# Altium footprint library myLib.PcbLib: 111 footprints (part 3 of 7)
Each footprint in its own frame and in the unit in brackets; x right, y up, seen from the top. Pads: shape width x height; smd on the part's side, far side on the other; paste and mask are expansions set on the pad; w line width, h text height; cw(c..) or ccw(c..) is an arc to the next point about the centre after c.
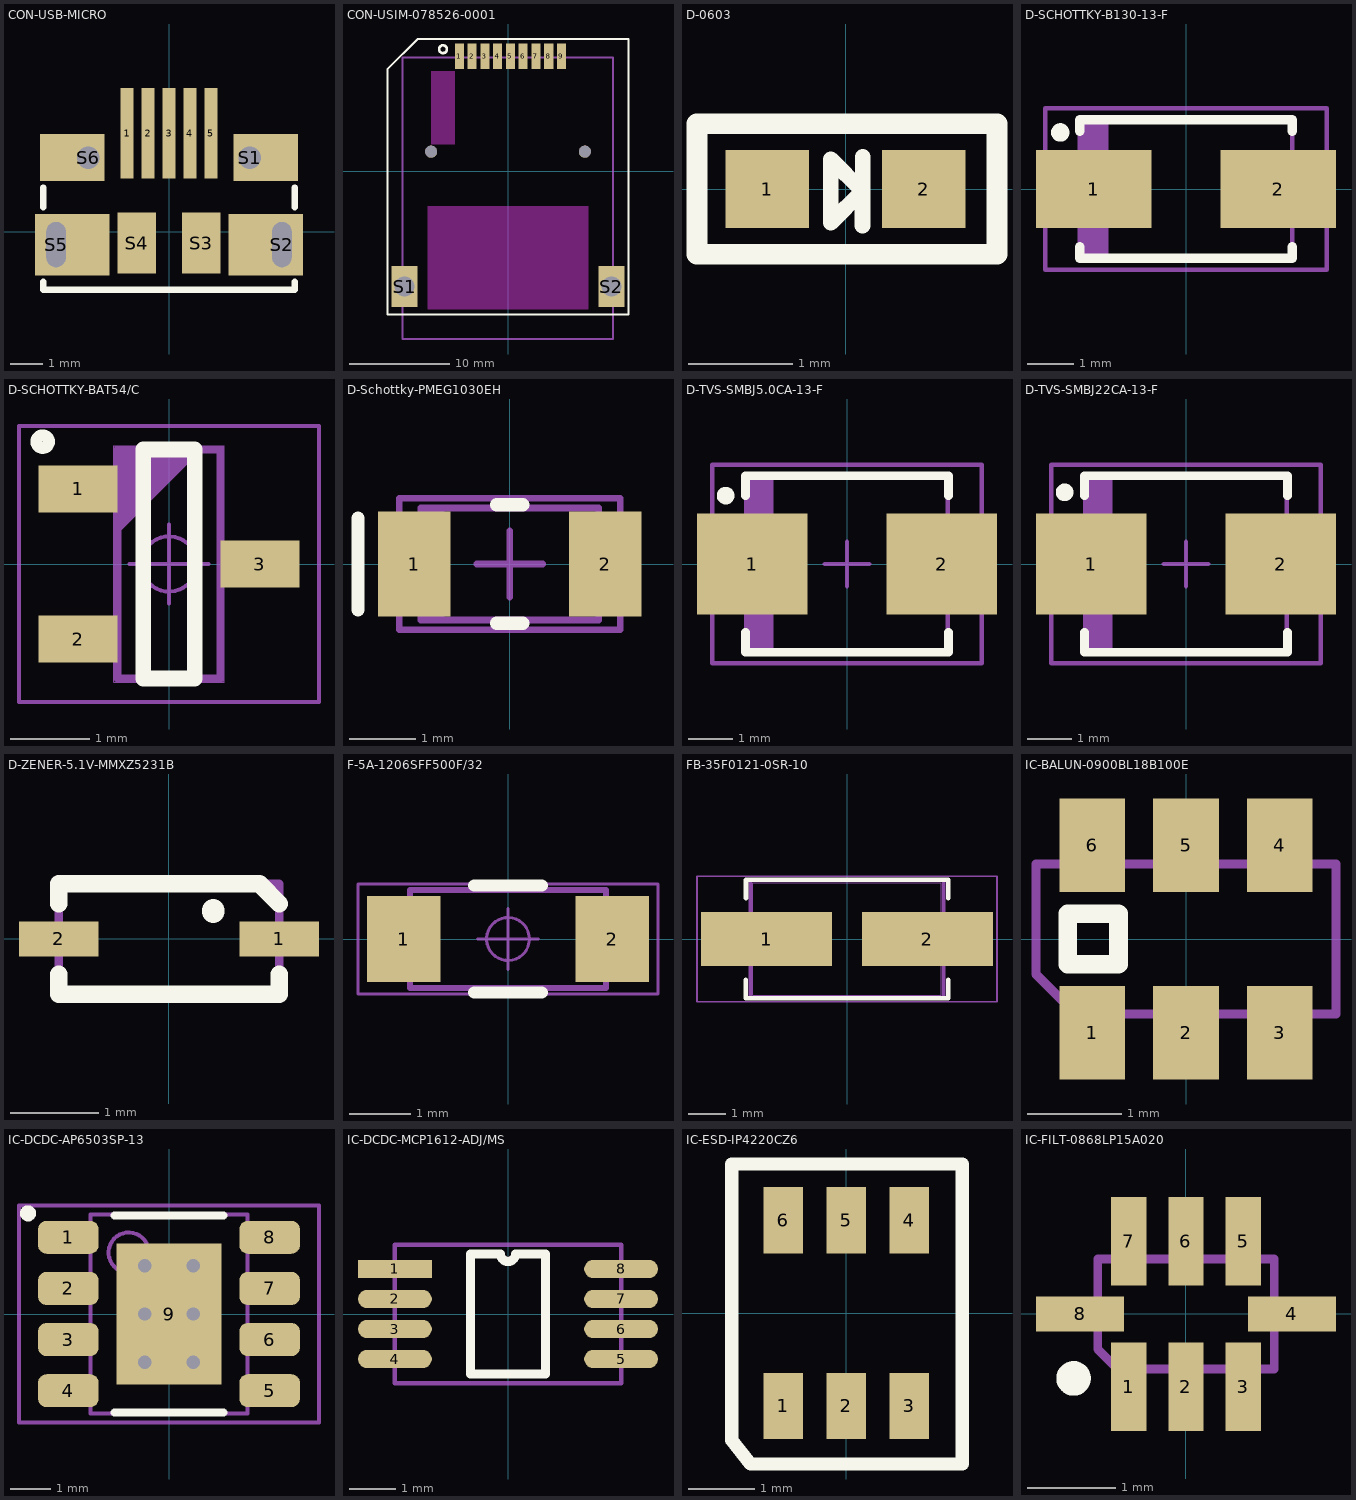
[diagram p2: the footprints below, top view; thin cyan lines are the x and y axes]

## CON-USB-MICRO [mm] "Micro USB Connector"
pads (11):
  rect 0.4x2.8 smd: 1(-1.3,3.05) 2(-0.65,3.05) 3(0,3.05) 4(0.65,3.05) 5(1.3,3.05)
  rect 2x1.45 hole 0.7 copper offset 0.5,0: S1(2.5,2.3)
  rect 2.3x1.9 hole 0.6 slot 1.4 at 90 deg copper offset -0.5,0: S2(3.5,-0.4)
  rect 1.2x1.9 smd: S3(1,-0.35) S4(-1,-0.35)
  rect 2.3x1.9 hole 0.6 slot 1.4 at 90 deg copper offset 0.5,0: S5(-3.5,-0.4)
  rect 2x1.45 hole 0.7 copper offset -0.5,0: S6(-2.5,2.3)
Top Overlay:
  lines w0.2: -3.9,-1.549 -3.9,-1.8 3.9,-1.8 3.9,-1.549 ; -3.9,0.762 -3.9,1.372 ; 3.9,0.762 3.9,1.372

## CON-USIM-078526-0001 [mm] "SIM Card Holder, Molex, 078526-0001"
pads (13):
  rect 0.9x2.5 smd: 1(-4.835,11.465) 2(-3.565,11.465) 3(-2.295,11.465) 4(-1.025,11.465) 5(0.245,11.465) 6(1.515,11.465) 7(2.785,11.465) 8(4.055,11.465) 9(5.325,11.465)
  rect 2.6x4.1 hole 2: S1(-10.3,-11.465) S2(10.3,-11.465)
  round 1.2 hole 1.2 unplated: ""(-7.65,1.965) ""(7.65,1.965)
Top Layer keep-out:
  region: -7.65,2.688 -5.298,2.688 -5.298,9.971 -7.65,9.971
  region: -8,-13.7 8,-13.7 8,-3.485 -8,-3.485
Top Overlay:
  circle w0.254: c-6.468,12.166 r0.39
  lines w0.2: -12.005,-14.26 12.005,-14.26 12.005,13.18 -8.999,13.18 -12.005,10.174 -12.005,-14.26
Drawing:
  lines w0.2: -10.483,11.345 -10.483,-16.681 10.463,-16.681 10.463,11.345 -10.458,11.345
3D body "785260001.stp": height 1.54, standoff -0.51, extent -10.489,-16.706 10.511,11.344

## D-0603 [mm] "Diode, Generic, 0603"
pads (2):
  rect 0.8x0.75 smd: 1(-0.75,0) 2(0.75,0)
Top Overlay:
  lines w0.15: 0.161,-0.35 0.162,-0.019 ; 0.162,0.309 0.162,-0.019 ; 0.162,-0.019 -0.143,0.286 -0.143,-0.324 0.162,-0.019
  lines w0.2: -1.425,-0.625 -1.425,0.625 1.45,0.625 1.45,-0.625 -1.425,-0.625

## D-SCHOTTKY-B130-13-F [mm] "Schottky Diode (B130-13-F)"
height 2.3
pads (2):
  rect 2.5x1.7 smd: 1(-2,0) 2(2,0)
Top Overlay:
  circle w0.2: c-2.725,1.225 r0.1
  lines w0.2: -2.3,-1.25 -2.3,-1.5 2.3,-1.5 2.3,-1.25 ; -2.3,1.25 -2.3,1.5 2.3,1.5 2.3,1.25
Drawing:
  rectangle: -2.3,-1.46 -1.681,1.46
  lines w0.1: -2.3,-1.46 -2.3,1.46 2.3,1.46 2.3,-1.46 -2.3,-1.46
Mechanical:
  lines w0.1: -3.05,-1.75 -3.05,1.75 3.05,1.75 3.05,-1.75 -3.05,-1.75
3D body: height 2.3, standoff 0, extent -2.3,-1.46 2.3,1.46

## D-SCHOTTKY-BAT54/C [mm] "Schottky Diode (BAT54/C)"
height 1.12
pads (3):
  rect 1x0.6 smd: 1(-1.15,0.95) 2(-1.15,-0.95) 3(1.15,0)
Top Overlay:
  circle w0.15: c-1.6,1.55 r0.08
  lines w0.2: -0.325,-1.45 -0.325,1.45 0.325,1.45 0.325,-1.45 -0.325,-1.45
Drawing:
  circle w0.05: c0,0 r0.35
  lines w0.05: -0.5,0 0.5,0 ; 0,-0.5 0,0.5 ; -1.9,-1.75 -1.9,1.75 1.9,1.75 1.9,-1.75 -1.9,-1.75
3D:
  lines w0.001: -0.7,-1.5 -0.7,1.5 0.7,1.5 0.7,-1.5 -0.7,-1.5
Mechanical:
  lines w0.1: -0.65,0.45 0.35,1.45 ; -0.65,0.55 0.25,1.45 ; -0.65,0.65 0.15,1.45 ; -0.65,0.75 0.05,1.45 ; -0.65,0.85 -0.05,1.45 ; -0.65,0.95 -0.15,1.45 ; -0.65,1.05 -0.25,1.45 ; -0.65,1.15 -0.35,1.45 ; -0.65,1.25 -0.45,1.45 ; -0.65,1.35 -0.55,1.45 ; -0.65,-1.45 -0.65,1.45 0.65,1.45 0.65,-1.45 -0.65,-1.45
3D body: height 1.12, standoff 0, extent -0.7,-1.5 0.7,1.5

## D-Schottky-PMEG1030EH [mm] "Diode, SMD (PMEG1030EH)"
height 1.2
pads (2):
  rect 1.1x1.6 smd: 1(-1.45,0) 2(1.45,0)
Top Overlay:
  lines w0.2: -2.3,-0.7 -2.3,0.7 ; -0.2,-0.9 0.2,-0.9 ; -0.2,0.9 0.2,0.9
3D:
  rectangle: -1.35,-0.85 -0.987,0.85
  lines w0.1: -1.35,-0.85 1.35,-0.85 1.35,0.85 -1.35,0.85 -1.35,-0.85
Mechanical:
  lines w0.1: -0.5,0 0.5,0 ; 0,-0.5 0,0.5 ; -1.675,-1 1.675,-1 1.675,1 -1.675,1 -1.675,-1
3D body: height 1.2, standoff 0, extent -1.35,-0.85 1.35,0.85

## D-TVS-SMBJ5.0CA-13-F [mm] "TVS Diode (SMBJ22CA-13-F)"
height 2.62
pads (2):
  rect 2.5x2.3 smd: 1(-2.15,0) 2(2.15,0)
Top Overlay:
  circle w0.2: c-2.75,1.55 r0.1
  lines w0.2: -2.3,-1.55 -2.3,-2 2.3,-2 2.3,-1.55 ; -2.3,1.55 -2.3,2 2.3,2 2.3,1.55
Drawing:
  rectangle: -2.285,-1.97 -1.67,1.97
  lines w0.1: -2.285,-1.97 2.285,-1.97 2.285,1.97 -2.285,1.97 -2.285,-1.97
Mechanical:
  lines w0.1: -0.5,0 0.5,0 ; 0,-0.5 0,0.5 ; -3.05,-2.25 3.05,-2.25 3.05,2.25 -3.05,2.25 -3.05,-2.25
3D body: height 2.62, standoff 0, extent -2.285,-1.97 2.285,1.97

## D-TVS-SMBJ22CA-13-F [mm] "TVS Diode (SMBJ22CA-13-F)"
height 2.62
pads (2):
  rect 2.5x2.3 smd: 1(-2.15,0) 2(2.15,0)
Top Overlay:
  circle w0.2: c-2.75,1.625 r0.1
  lines w0.2: -2.3,-1.55 -2.3,-2 2.3,-2 2.3,-1.55 ; -2.3,1.55 -2.3,2 2.3,2 2.3,1.55
Drawing:
  rectangle: -2.285,-1.97 -1.67,1.97
  lines w0.1: -2.285,-1.97 -2.285,1.97 2.285,1.97 2.285,-1.97 -2.285,-1.97
Mechanical:
  lines w0.1: -0.5,0 0.5,0 ; 0,-0.5 0,0.5 ; -3.05,-2.25 -3.05,2.25 3.05,2.25 3.05,-2.25 -3.05,-2.25
3D body: height 2.62, standoff 0, extent -2.285,-1.97 2.285,1.97

## D-ZENER-5.1V-MMXZ5231B [mm] "Zener Diode, 5.1V, 200mW, ±5%"
pads (2):
  rect 0.9x0.4 smd: 1(1.25,0) 2(-1.25,0)
Top Overlay:
  lines w0.2: -1.25,-0.4 -1.25,-0.625 1.25,-0.625 1.25,-0.4 ; -1.25,0.4 -1.25,0.625 1.025,0.625 1.25,0.4
  lines w0.254: 0.5,0.324 cw(c0.467,0.314) 0.501,0.311
Drawing:
  lines w0.1: -1.25,-0.625 1.25,-0.625 1.25,0.625 -1.25,0.625 -1.25,-0.625

## F-5A-1206SFF500F/32 [mm] "FUSE SMD, 1206, 5A (1206SFF500F/32)"
height 0.6
pads (2):
  rect 1.2x1.4 smd: 1(-1.7,0) 2(1.7,0)
Top Overlay:
  lines w0.2: -0.55,-0.875 0.55,-0.875 ; -0.55,0.875 0.55,0.875
Drawing:
  circle w0.05: c0,0 r0.35
  lines w0.05: -0.5,0 0.5,0 ; 0,-0.5 0,0.5 ; -2.45,-0.9 -2.45,0.9 2.45,0.9 2.45,-0.9 -2.45,-0.9
3D:
  lines w0.001: -1.6,-0.8 1.6,-0.8 1.6,0.8 -1.6,0.8 -1.6,-0.8
Mechanical:
  lines w0.1: -1.6,-0.8 -1.6,0.8 1.6,0.8 1.6,-0.8 -1.6,-0.8
3D body: height 0.6, standoff 0, extent -1.6,-0.8 1.6,0.8

## FB-35F0121-0SR-10 [mm] "Power supply FB 10A (Laird 35F0121-0SR-10)"
height 3.05
pads (2):
  rect 3.532x1.47 smd: 1(-2.171,0) 2(2.171,0)
Top Overlay:
  lines w0.127: -2.732,-1.102 -2.732,-1.599 2.73,-1.599 2.73,-1.104 ; -2.729,1.104 -2.729,1.599 2.73,1.599 2.73,1.104
Drawing:
  lines w0.05: -4.05,-1.695 -4.05,1.695 4.05,1.695 4.05,-1.695 -4.05,-1.695
3D:
  lines w0.001: -2.54,-1.525 -2.54,1.525 2.54,1.525 2.54,-1.525 -2.54,-1.525
Mechanical:
  lines w0.1: -2.614,-1.599 2.614,-1.599 2.614,1.599 -2.614,1.599 -2.614,-1.599
3D body: height 3.05, standoff 0, extent -2.54,-1.525 2.54,1.525

## IC-BALUN-0900BL18B100E [mm] "900 MHz Balun"
pads (6):
  rect 0.7x1 smd: 1(-1,-1) 2(0,-1) 3(1,-1) 4(1,1) 5(0,1) 6(-1,1)
Top Overlay:
  lines w0.2: -1.26,-0.27 -0.72,-0.27 -0.72,0.27 -1.26,0.27 -1.26,-0.27
Drawing:
  lines w0.1: -1.6,-0.375 -1.6,0.8 1.6,0.8 1.6,-0.8 -1.175,-0.8 -1.6,-0.375

## IC-DCDC-AP6503SP-13 [mm] "340kHz 3A Synch. DC/DC Buck Converter (AP6503SP-13)"
height 1.5
pads (9):
  rrect50% 1.505x0.82 smd: 1(-2.498,1.905) 2(-2.498,0.635) 3(-2.498,-0.635) 4(-2.498,-1.905) 5(2.497,-1.905) 6(2.497,-0.635) 7(2.497,0.635) 8(2.497,1.905)
  rect 2.613x3.502 smd: 9(0,0)
via -0.6,1.2 diameter 0.66 hole 0.33
via 0.6,1.2 diameter 0.66 hole 0.33
via -0.6,0 diameter 0.66 hole 0.33
via 0.6,0 diameter 0.66 hole 0.33
via -0.6,-1.2 diameter 0.66 hole 0.33
via 0.6,-1.2 diameter 0.66 hole 0.33
Top Overlay:
  circle w0.2: c-3.5,2.5 r0.1
  lines w0.2: -1.35,-2.45 1.35,-2.45 ; -1.35,2.45 1.35,2.45
Drawing:
  circle w0.1: c-1,1.525 r0.5
  lines w0.1: -1.95,-2.475 -1.95,2.475 1.95,2.475 1.95,-2.475 -1.95,-2.475
Mechanical:
  lines w0.1: -0.5,0 0.5,0 ; 0,-0.5 0,0.5 ; -3.725,-2.7 -3.725,2.7 3.725,2.7 3.725,-2.7 -3.725,-2.7
3D body: height 1.5, standoff 0.13, extent -1.95,-2.475 1.95,2.475

## IC-DCDC-MCP1612-ADJ/MS [mm] "Adj Switched Buck Regulator"
pads (8):
  rect 1.6x0.4 smd: 1(-2.45,0.975)
  oval 1.6x0.4 smd: 2(-2.45,0.325) 3(-2.45,-0.325) 4(-2.45,-0.975) 5(2.45,-0.975) 6(2.45,-0.325) 7(2.45,0.325) 8(2.45,0.975)
Top Overlay:
  lines w0.2: -0.815,-1.3 0.815,-1.3 0.815,1.3 0.162,1.3 cw(c0,1.3) -0.162,1.3 -0.815,1.3 -0.815,-1.3
Drawing:
  lines w0.1: -2.45,-1.5 -2.45,1.5 2.45,1.5 2.45,-1.5 -2.45,-1.5

## IC-ESD-IP4220CZ6 [mm] "Anti-ESD Diode IC (IP4220CZ6)"
pads (6):
  rect 0.6x1 smd: 1(-0.95,-1.4) 2(0,-1.4) 3(0.95,-1.4) 4(0.95,1.4) 5(0,1.4) 6(-0.95,1.4)
Top Overlay:
  lines w0.2: -1.725,-1.916 -1.725,2.25 1.75,2.25 1.75,-2.275 -1.443,-2.275 -1.725,-1.916

## IC-FILT-0868LP15A020 [mm] "LPF"
pads (8):
  rect 0.4x1 smd: 1(-0.65,-0.825) 2(0,-0.825) 3(0.65,-0.825) 5(0.65,0.825) 6(0,0.825) 7(-0.65,0.825)
  rect 1x0.4 smd: 4(1.2,0) 8(-1.2,0)
Top Overlay:
  lines w0.254: -1.21,-0.754 cw(c-1.274,-0.73) -1.206,-0.728
Drawing:
  lines w0.1: -1,-0.398 -1,0.625 1,0.625 1,-0.625 -0.773,-0.625 -1,-0.398